# Altium integrated library PCV-2-564-08L.IntLib: 1 symbol
Pins are listed as number, name and electrical type; pins without a type are passive.

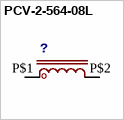
[diagram p0: symbol PCV-2-564-08L]

## PCV-2-564-08L
designator ?
footprint PCV-2-564-08L
pins: P$1 1, P$2 4